# Altium schematic symbol library CAP - C1608X7R1E105K080AE.SchLib: 1 symbol
Pins are listed as number, name and electrical type; pins without a type are passive.

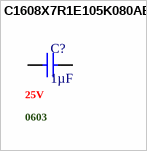
[diagram p0: symbol C1608X7R1E105K080AE]

## C1608X7R1E105K080AE
designator C?, comment 1µF  .Case/Package: 0603  .Voltage Rating (DC): 25V
25V 1uF X7R 卤10% 0603 Multilayer Ceramic Capacitors MLCC - SMD/SMT ROHS; Manufacturer: TDK; Manufacturer Part Number: C1608X7R1E105K080AE; Manufacturer Lifecycle Status: PRODUCTION; Tolerance: 10%; Supplier: Mouser; Supplier Part Number: 810-C1608X7R1E105KAE; RoHS: Compliant; Category: Ceramic Capacitors; Stock: 89352; Pricing: 1=0,24, 10=0,1, 50=0,1, 100=0,088, 1000=0,062, 10000=0,044 (USD); Value: 1µF; Case/Package: 0603; Case Code (Imperial): 0603; Case Code (Metric): 1608; China RoHS: Compliant; Dielectric Material: Ceramic; Features: Soft Termination; Height: 800µm; Length: 1.6mm; Lifecycle Status: Production; Material: Ceramic; Max Length: 1.8mm; Max Operating Temperature: 125°C; Max Width: 950µm; Min Length: 1.5mm; Min Operating Temperature: -55°C; Min Width: 700µm; Mounting Technology: Surface Mount; Number of Terminals: 2; REACH SVHC: Yes; Schedule B: 8532240020, 8532240020|8532240020|8532240020|8532240020|8532240020; Thickness: 939.8µm; Voltage Rating: 25V; Voltage Rating (DC): 25V; Width: 800µm; ComponentLink1URL: https://datasheet.octopart.com:443/C1608X7R1E105K080AE-TDK-datasheet-182135025.pdf?src-supplier=TME; ComponentLink1Description: https://datasheet.octopart.com:443/C1608X7R1E105K080AE-TDK-datasheet-182135025.pdf?src-supplier=TME; ComponentLink2URL: https://datasheet.octopart.com:443/C1608X7R1E105K080AE-TDK-datasheet-159617022.pdf?src-supplier=TME; ComponentLink2Description: https://datasheet.octopart.com:443/C1608X7R1E105K080AE-TDK-datasheet-159617022.pdf?src-supplier=TME; ComponentLink3URL: https://datasheet.octopart.com:443/C1608X7R1E105K080AE-TDK-datasheet-151546525.pdf?src-supplier=ODG+(Origin+Data+Global); ComponentLink3Description: https://datasheet.octopart.com:443/C1608X7R1E105K080AE-TDK-datasheet-151546525.pdf?src-supplier=ODG+(Origin+Data+Global); ComponentLink4URL: https://datasheet.octopart.com:443/C1608X7R1E105K080AE-TDK-datasheet-60278151.pdf?src-supplier=Future+Electronics; ComponentLink4Description: https://datasheet.octopart.com:443/C1608X7R1E105K080AE-TDK-datasheet-60278151.pdf?src-supplier=Future+Electronics; Supplier 1: Mouser; Supplier Part Number 1: 810-C1608X7R1E105KAE
footprint C0603 - MURATA (Chip Capacitor, 2-Leads, Body 1,60x0,80mm, IPC Medium Density)
pins: 1, 2